# Altium schematic symbol library Lib.SchLib: 1 symbol
Pins are listed as number, name and electrical type; pins without a type are passive.

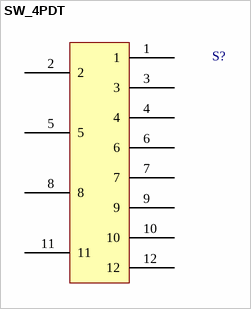
[diagram p0: symbol SW_4PDT]

## SW_4PDT
designator S?, comment 4PDT  (value not drawn)
4PDT Switch
footprint MFS401N2Z (4PDT Switch Through-Hole)
pins: 1, 2, 3, 4, 5, 6, 7, 8, 9, 10, 11, 12